# EAGLE library part YICLMAX3483 (library Traficon)
3.3V Powered, 10Mbps and Slew-Rate Limited, True RS-485/RS-422 Transceivers
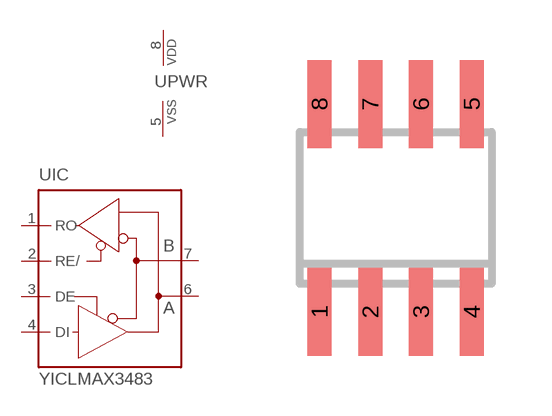
[diagram p14: symbol with the pads of SO08; footprint SO08]

Designator prefix U; gates IC=MAX481 PWR=3V3-GND

## YICLMAX3483  [SO08]
1  IC:RO  out
2  IC:RE/  in
3  IC:DE  in
4  IC:DI  in
5  PWR:VSS  pwr
6  IC:A  pas
7  IC:B  pas
8  PWR:VDD  pwr

## Footprint SO08 (pad centres in mm)
SMALL OUTLINE INTEGRATED CIRCUIT body 3.9 mm/JEDEC MS-012AA
smd 0.6 x 2.2: 1 -1.905,-2.6; 2 -0.635,-2.6; 3 0.635,-2.6; 4 1.905,-2.6; 5 1.905,2.6; 6 0.635,2.6; 7 -0.635,2.6; 8 -1.905,2.6